# Altium footprint library 429A-1-V1.0.1.PcbLib: 19 footprints (part 2 of 2)
Each footprint in its own frame and in the unit in brackets; x right, y up, seen from the top. Pads: shape width x height; smd on the part's side, far side on the other; paste and mask are expansions set on the pad; w line width, h text height; cw(c..) or ccw(c..) is an arc to the next point about the centre after c.
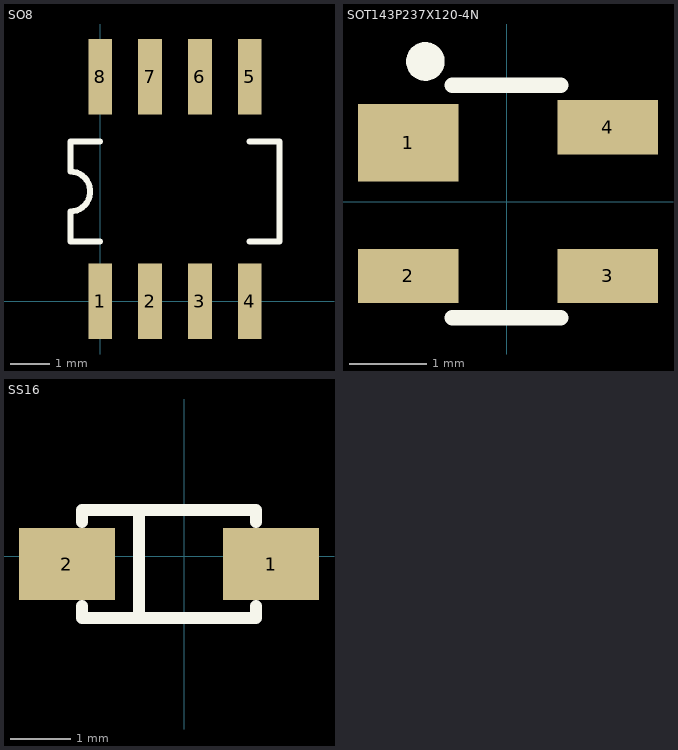
[diagram p1: the footprints below, top view; thin cyan lines are the x and y axes]

## SO8 [mil]
pads (8):
  rect 24x76 smd: 1(0,0) 2(50,0) 3(100,0) 4(150,0) 5(150,225) 6(100,225) 7(50,225) 8(0,225)
Top Overlay:
  lines w6: 0,60 -30,60 -30,90 ccw(c-30,110) -30,130 -30,160 0,160 ; 150,60 180,60 180,160 150,160

## SOT143P237X120-4N [mm] "SOT143, 4-Leads, Body 3.0x2.6mm (max), Pitch 1.92mm, IPC Medium Density"
height 1.2
pads (4):
  rect 1.3x1 smd: 1(-1.27,0.762)
  rect 1.3x0.7 smd: 2(-1.27,-0.96) 3(1.304,-0.96) 4(1.304,0.96)
Top Overlay:
  circle w0.25: c-1.05,1.81 r0.125
  lines w0.2: -0.7,-1.5 0.7,-1.5 ; -0.7,1.5 0.7,1.5

## SS16 [mm]
pads (2):
  rect 1.6x1.2 smd: 1(1.446,-0.127) 2(-1.954,-0.127)
Top Overlay:
  lines w0.2: -1.704,-0.827 -1.704,-1.027 1.196,-1.027 1.196,-0.827 ; -1.704,0.573 -1.704,0.773 1.196,0.773 1.196,0.573 ; -0.754,-1.027 -0.754,0.773